# EAGLE library part MIKROE_BUS_CONN_L (library U96-SVM)
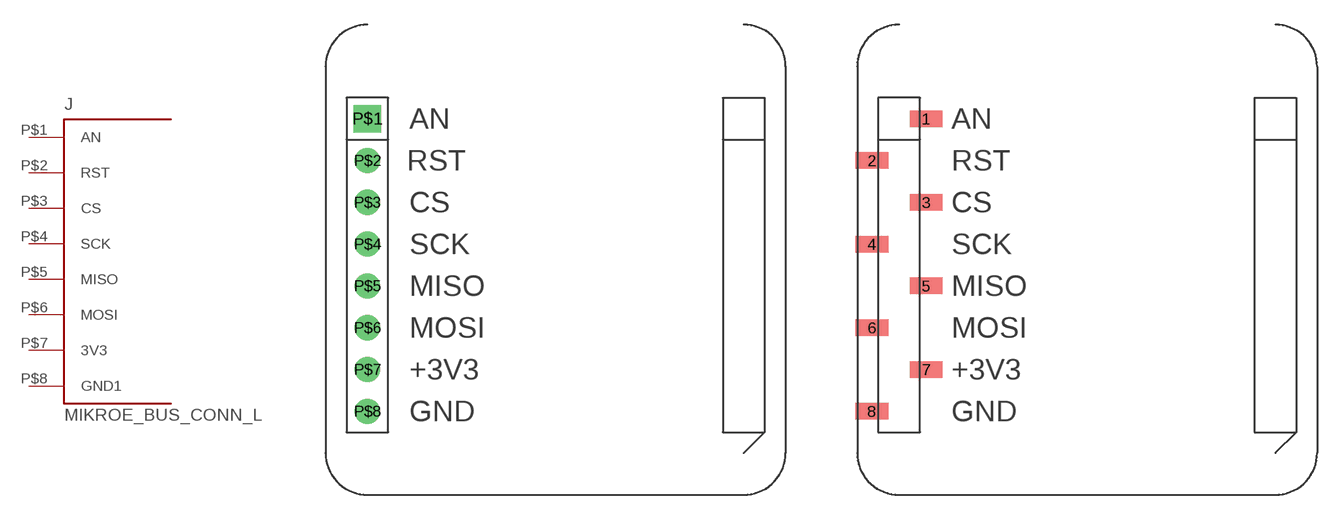
[diagram p9: symbol with the pads of MIKROBUS_HOST_CONN_L; footprints MIKROBUS_HOST_CONN_L, MIKROBUS_HOST_CONN_L2]

Designator prefix J

## MIKROE_BUS_CONN_L  [MIKROBUS_HOST_CONN_L]
P$1  AN
P$2  RST
P$3  CS
P$4  SCK
P$5  MISO
P$6  MOSI
P$7  3V3
P$8  GND1

## MIKROE_BUS_CONN_LNPTC081KFXC  [MIKROBUS_HOST_CONN_L2]
1  AN
2  RST
3  CS
4  SCK
5  MISO
6  MOSI
7  3V3
8  GND1

## Footprint MIKROBUS_HOST_CONN_L (pad centres in mm)
drill 0.889 pad 1.676 square: P$1 0,0
drill 0.889 pad 1.524: P$2 0,-2.54; P$3 0,-5.08; P$4 0,-7.62; P$5 0,-10.16; P$6 0,-12.7; P$7 0,-15.24; P$8 0,-17.78

## Footprint MIKROBUS_HOST_CONN_L2 (pad centres in mm)
smd 2 x 1: 1 1.65,0; 2 -1.65,-2.54; 3 1.65,-5.08; 4 -1.65,-7.62; 5 1.65,-10.16; 6 -1.65,-12.7; 7 1.65,-15.24; 8 -1.65,-17.78